# Altium footprint library LED_0805_RIGHT.PcbLib: 1 footprints
Each footprint in its own frame and in the unit in brackets; x right, y up, seen from the top. Pads: shape width x height; smd on the part's side, far side on the other; paste and mask are expansions set on the pad; w line width, h text height; cw(c..) or ccw(c..) is an arc to the next point about the centre after c.
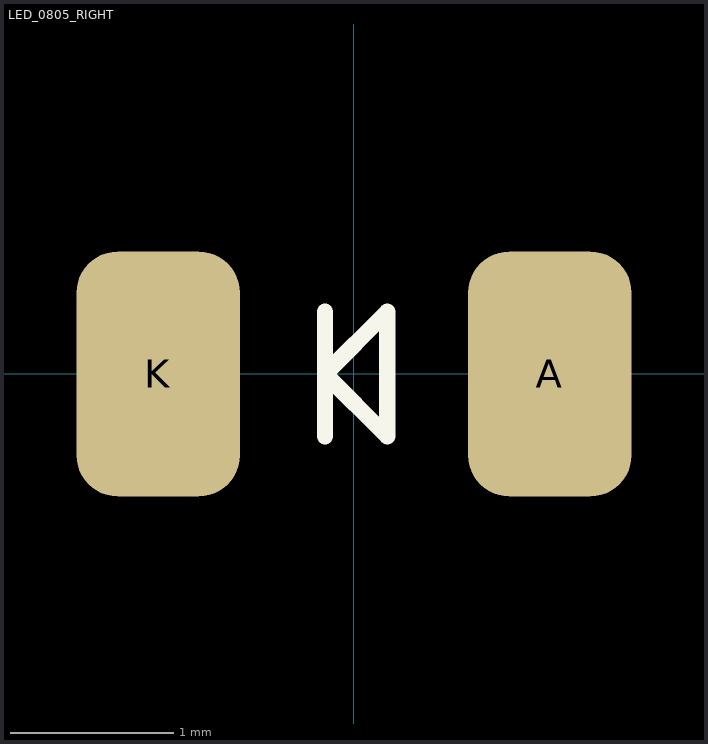
[diagram p0: the footprint, top view; thin cyan lines are the x and y axes]

## LED_0805_RIGHT [mm]
pads (2):
  rrect50% 1x1.5 smd: A(1.2,0) K(-1.2,0)
TopOverlay:
  lines w0.1: -0.178,-0.381 -0.178,0.051 ; -0.178,0.381 -0.178,0 ; -0.178,0 0.203,0.381 0.203,-0.381 -0.178,0
3D body: height 1, standoff 0, extent -1.5,-0.5 1.5,1.5